# EAGLE library part USBUF02W6 (library X893)
Datasheet <http://www.st.com/web/en/resource/technical/document/datasheet/CD00002046.pdf>
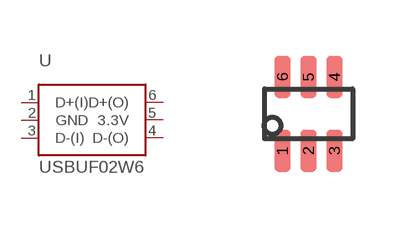
[diagram p129: symbol with the pads of SOT323-6; footprint SOT323-6]

Designator prefix U

## USBUF02W6  [SOT323-6]
1  D+(I)  pas
2  GND  pas
3  D-(I)  pas
4  D-(O)  pas
5  3.3V  pas
6  D+(O)  pas

## Footprint SOT323-6 (pad centres in mm)
smd 0.4 x 1.05: 1 -0.65,-0.925; 2 0,-0.925; 3 0.65,-0.925; 4 0.65,0.925; 5 0,0.925; 6 -0.65,0.925